# Altium footprint library PCBLib.PcbLib: 3 footprints
Each footprint in its own frame and in the unit in brackets; x right, y up, seen from the top. Pads: shape width x height; smd on the part's side, far side on the other; paste and mask are expansions set on the pad; w line width, h text height; cw(c..) or ccw(c..) is an arc to the next point about the centre after c.
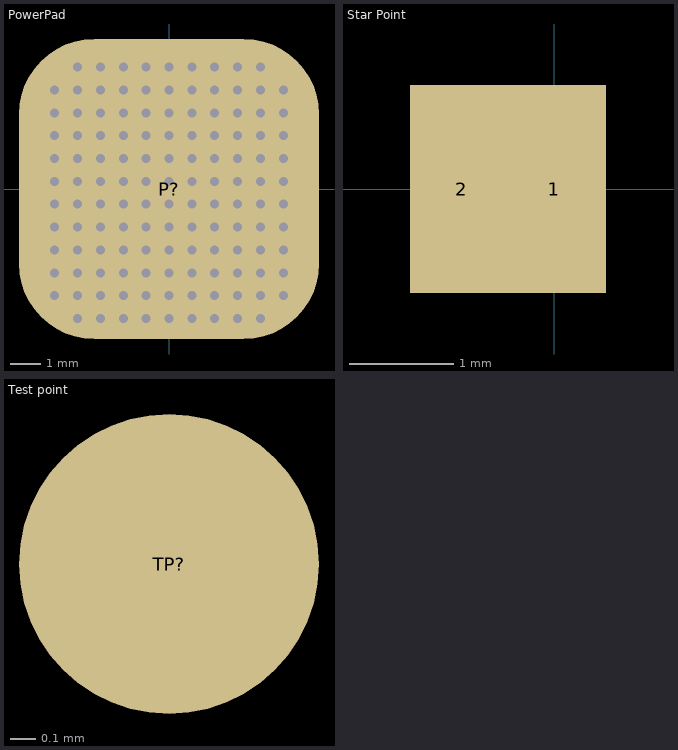
[diagram p0: the footprints below, top view; thin cyan lines are the x and y axes]

## PowerPad [mm] "Power pad"
pads (1):
  rrect50% 10x10 all layers, no hole paste-2539.97 mask+0.102: P?(0,0)
via -1.524,1.778 diameter 0.5 hole 0.3
via -0.762,1.778 diameter 0.5 hole 0.3
via 0,1.778 diameter 0.5 hole 0.3
via 0.762,1.778 diameter 0.5 hole 0.3
via 1.524,1.778 diameter 0.5 hole 0.3
via 1.524,1.016 diameter 0.5 hole 0.3
via 0.762,1.016 diameter 0.5 hole 0.3
via 0,1.016 diameter 0.5 hole 0.3
via -0.762,1.016 diameter 0.5 hole 0.3
via -1.524,1.016 diameter 0.5 hole 0.3
via -1.524,0.254 diameter 0.5 hole 0.3
via -0.762,0.254 diameter 0.5 hole 0.3
via 0,0.254 diameter 0.5 hole 0.3
via 0.762,0.254 diameter 0.5 hole 0.3
via 1.524,0.254 diameter 0.5 hole 0.3
via 1.524,-0.508 diameter 0.5 hole 0.3
via 0.762,-0.508 diameter 0.5 hole 0.3
via 0,-0.508 diameter 0.5 hole 0.3
via -0.762,-0.508 diameter 0.5 hole 0.3
via -1.524,-0.508 diameter 0.5 hole 0.3
via -1.524,-1.27 diameter 0.5 hole 0.3
via -0.762,-1.27 diameter 0.5 hole 0.3
via 0,-1.27 diameter 0.5 hole 0.3
via 0.762,-1.27 diameter 0.5 hole 0.3
via 1.524,-1.27 diameter 0.5 hole 0.3
via 1.524,-2.032 diameter 0.5 hole 0.3
via 0.762,-2.032 diameter 0.5 hole 0.3
via 0,-2.032 diameter 0.5 hole 0.3
via -0.762,-2.032 diameter 0.5 hole 0.3
via -1.524,-2.032 diameter 0.5 hole 0.3
via -1.524,-2.794 diameter 0.5 hole 0.3
via -0.762,-2.794 diameter 0.5 hole 0.3
via 0,-2.794 diameter 0.5 hole 0.3
via 0.762,-2.794 diameter 0.5 hole 0.3
via 1.524,-2.794 diameter 0.5 hole 0.3
via 1.524,-3.556 diameter 0.5 hole 0.3
via 0.762,-3.556 diameter 0.5 hole 0.3
via 0,-3.556 diameter 0.5 hole 0.3
via -0.762,-3.556 diameter 0.5 hole 0.3
via -1.524,-3.556 diameter 0.5 hole 0.3
via -1.524,-4.318 diameter 0.5 hole 0.3
via -0.762,-4.318 diameter 0.5 hole 0.3
via 0,-4.318 diameter 0.5 hole 0.3
via 0.762,-4.318 diameter 0.5 hole 0.3
via 1.524,-4.318 diameter 0.5 hole 0.3
via 1.524,2.54 diameter 0.5 hole 0.3
via 0.762,2.54 diameter 0.5 hole 0.3
via 0,2.54 diameter 0.5 hole 0.3
via -0.762,2.54 diameter 0.5 hole 0.3
via -1.524,2.54 diameter 0.5 hole 0.3
via -1.524,3.302 diameter 0.5 hole 0.3
via -0.762,3.302 diameter 0.5 hole 0.3
via 0,3.302 diameter 0.5 hole 0.3
via 0.762,3.302 diameter 0.5 hole 0.3
via 1.524,4.064 diameter 0.5 hole 0.3
via 0.762,4.064 diameter 0.5 hole 0.3
via 0,4.064 diameter 0.5 hole 0.3
via -0.762,4.064 diameter 0.5 hole 0.3
via -1.524,4.064 diameter 0.5 hole 0.3
via 1.524,3.302 diameter 0.5 hole 0.3
via 2.286,4.064 diameter 0.5 hole 0.3
via 2.286,3.302 diameter 0.5 hole 0.3
via 2.286,2.54 diameter 0.5 hole 0.3
via 2.286,1.778 diameter 0.5 hole 0.3
via 2.286,1.016 diameter 0.5 hole 0.3
via 2.286,0.254 diameter 0.5 hole 0.3
via 2.286,-0.508 diameter 0.5 hole 0.3
via 2.286,-1.27 diameter 0.5 hole 0.3
via 2.286,-2.032 diameter 0.5 hole 0.3
via 2.286,-2.794 diameter 0.5 hole 0.3
via 2.286,-3.556 diameter 0.5 hole 0.3
via 2.286,-4.318 diameter 0.5 hole 0.3
via 3.048,4.064 diameter 0.5 hole 0.3
via 3.048,3.302 diameter 0.5 hole 0.3
via 3.048,2.54 diameter 0.5 hole 0.3
via 3.048,1.778 diameter 0.5 hole 0.3
via 3.048,1.016 diameter 0.5 hole 0.3
via 3.048,0.254 diameter 0.5 hole 0.3
via 3.048,-0.508 diameter 0.5 hole 0.3
via 3.048,-1.27 diameter 0.5 hole 0.3
via 3.048,-2.032 diameter 0.5 hole 0.3
via 3.048,-2.794 diameter 0.5 hole 0.3
via 3.048,-3.556 diameter 0.5 hole 0.3
via 3.048,-4.318 diameter 0.5 hole 0.3
via 3.81,3.302 diameter 0.5 hole 0.3
via 3.81,2.54 diameter 0.5 hole 0.3
via 3.81,1.778 diameter 0.5 hole 0.3
via 3.81,1.016 diameter 0.5 hole 0.3
via 3.81,0.254 diameter 0.5 hole 0.3
via 3.81,-0.508 diameter 0.5 hole 0.3
via 3.81,-1.27 diameter 0.5 hole 0.3
via 3.81,-2.032 diameter 0.5 hole 0.3
via 3.81,-2.794 diameter 0.5 hole 0.3
via 3.81,-3.556 diameter 0.5 hole 0.3
via -2.286,-4.318 diameter 0.5 hole 0.3
via -2.286,-3.556 diameter 0.5 hole 0.3
via -2.286,-2.794 diameter 0.5 hole 0.3
via -2.286,-2.032 diameter 0.5 hole 0.3
via -2.286,-1.27 diameter 0.5 hole 0.3
via -2.286,-0.508 diameter 0.5 hole 0.3
via -2.286,0.254 diameter 0.5 hole 0.3
via -2.286,1.016 diameter 0.5 hole 0.3
via -2.286,1.778 diameter 0.5 hole 0.3
via -2.286,2.54 diameter 0.5 hole 0.3
via -2.286,3.302 diameter 0.5 hole 0.3
via -2.286,4.064 diameter 0.5 hole 0.3
via -3.048,4.064 diameter 0.5 hole 0.3
via -3.048,3.302 diameter 0.5 hole 0.3
via -3.048,2.54 diameter 0.5 hole 0.3
via -3.048,1.778 diameter 0.5 hole 0.3
via -3.048,1.016 diameter 0.5 hole 0.3
via -3.048,0.254 diameter 0.5 hole 0.3
via -3.048,-0.508 diameter 0.5 hole 0.3
via -3.048,-1.27 diameter 0.5 hole 0.3
via -3.048,-2.032 diameter 0.5 hole 0.3
via -3.048,-2.794 diameter 0.5 hole 0.3
via -3.048,-3.556 diameter 0.5 hole 0.3
via -3.048,-4.318 diameter 0.5 hole 0.3
via -3.81,-3.556 diameter 0.5 hole 0.3
via -3.81,-2.794 diameter 0.5 hole 0.3
via -3.81,-2.032 diameter 0.5 hole 0.3
via -3.81,-1.27 diameter 0.5 hole 0.3
via -3.81,-0.508 diameter 0.5 hole 0.3
via -3.81,0.254 diameter 0.5 hole 0.3
via -3.81,1.016 diameter 0.5 hole 0.3
via -3.81,1.778 diameter 0.5 hole 0.3
via -3.81,2.54 diameter 0.5 hole 0.3
via -3.81,3.302 diameter 0.5 hole 0.3

## Star Point [mm] "starpoint power"
pads (2):
  rect 1x2 smd paste-2539.97 mask-2539.97: 1(0,0) 2(-0.889,0)
Top Paste:
  region: -1.389,-1 -1.389,1 -0.389,1 -0.389,-1
  region: -0.5,-1 -0.5,1 0.5,1 0.5,-1
Top Solder:
  region: -1.389,-0.75 -1.389,0.75 -1.389,0.775 -1.379,0.823 -1.361,0.868 -1.333,0.909 -1.298,0.944 -1.257,0.972 -1.212,0.99 -1.164,1 -1.139,1 -0.639,1 -0.614,1 -0.566,0.99 -0.521,0.972 -0.48,0.944 -0.445,0.909 -0.417,0.868 -0.399,0.823 -0.389,0.775 -0.389,0.75 -0.389,-0.75 -0.389,-0.775 -0.399,-0.823 -0.417,-0.868 -0.445,-0.909 -0.48,-0.944 -0.521,-0.972 -0.566,-0.99 -0.614,-1 -0.639,-1 -1.139,-1 -1.164,-1 -1.212,-0.99 -1.257,-0.972 -1.298,-0.944 -1.333,-0.909 -1.361,-0.868 -1.379,-0.823 -1.389,-0.775
  region: -0.5,-0.75 -0.5,0.75 -0.5,0.775 -0.49,0.823 -0.472,0.868 -0.444,0.909 -0.409,0.944 -0.368,0.972 -0.323,0.99 -0.275,1 -0.25,1 0.25,1 0.275,1 0.323,0.99 0.368,0.972 0.409,0.944 0.444,0.909 0.472,0.868 0.49,0.823 0.5,0.775 0.5,0.75 0.5,-0.75 0.5,-0.775 0.49,-0.823 0.472,-0.868 0.444,-0.909 0.409,-0.944 0.368,-0.972 0.323,-0.99 0.275,-1 0.25,-1 -0.25,-1 -0.275,-1 -0.323,-0.99 -0.368,-0.972 -0.409,-0.944 -0.444,-0.909 -0.472,-0.868 -0.49,-0.823 -0.5,-0.775

## Test point [mm] "referrence point"
height 0.03
pads (1):
  round 1.2 smd paste-2539.97: TP?(-2.794,-5.588)
3D body: height 0.03, standoff 0, extent -3.394,-6.188 -2.194,-4.988